# EAGLE library part MC74HC164ADTR2G (library ICs)
Shift Register, HC Family, 74HC164, Serial to Parallel, 1 Element, 8 bit, TSSOP, 14 Pin
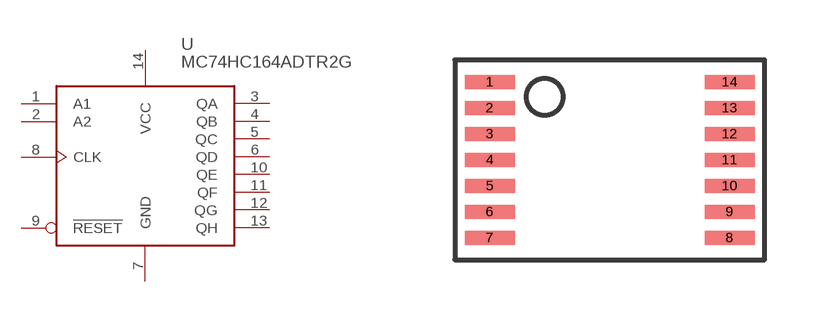
[diagram p169: symbol with the pads of SSOP14-4.5MM; footprint SSOP14-4.5MM]

Designator prefix U

## MC74HC164ADTR2G (DIGIKEY: MC74HC164ADTR2GOSCT-ND; HEIGHT: 1.2; PRICE_PER: 0.3; VALUE: 74HC164A)  [SSOP14-4.5MM]
1  A1  in
2  A2  in
3  QA
4  QB
5  QC
6  QD
7  GND
8  CLK  in
9  !RESET  in
10  QE
11  QF
12  QG
13  QH
14  VCC

## Footprint SSOP14-4.5MM (pad centres in mm)
smd 1.25 x 0.35: 1 -3,1.95; 2 -3,1.3; 3 -3,0.65; 4 -3,0; 5 -3,-0.65; 6 -3,-1.3; 7 -3,-1.95; 8 3,-1.95; 9 3,-1.3; 10 3,-0.65; 11 3,0; 12 3,0.65; 13 3,1.3; 14 3,1.95